# Altium schematic symbol library TLP291(GB-TP,SE.SchLib: 1 symbol
Pins are listed as number, name and electrical type; pins without a type are passive.

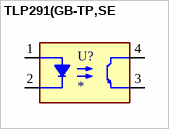
[diagram p0: symbol TLP291(GB-TP,SE]

## TLP291(GB-TP,SE
designator U?
Optoisolator Transistor Output 3750Vrms 1 Channel 4-SO; MF: Toshiba Semiconductor and Storage; MP: TLP291(GB-TP,SE; Purchase-URL: https://pricing.snapeda.com/search/part/TLP291(GB-TP,SE/?ref=eda; Check_prices: https://www.snapeda.com/parts/TLP291(GB-TP,SE/Toshiba+Semiconductor+and+Storage/view-part/?ref=eda; Price: None; Availability: In Stock; SnapEDA_Link: https://www.snapeda.com/parts/TLP291(GB-TP,SE/Toshiba+Semiconductor+and+Storage/view-part/?ref=snap; Package: SO-4 Toshiba Semiconductor; Value: *
footprint SOIC127P700X220-4N
pins: 1 A, 2 C, 3 EMIT, 4 COL